# Altium integrated library NSC Power Mgt SMPS Controller.IntLib: 5 symbols
Pins are listed as number, name and electrical type; pins without a type are passive.

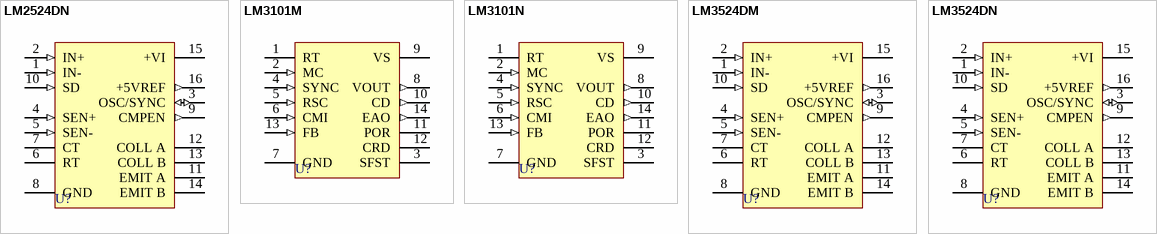
[diagram p0: symbols LM2524DN to LM3524DN]

## LM2524DN
designator U?
Regulating Pulse Width Modulator; Published: 15-Apr-2002; LatestRevisionDate: 06-Jun-2005; LatestRevisionNote: Stylized 3D Model Added.; DatasheetVersion: Jun-1999; PackageVersion: 2000; PackageReference: N16E; Publisher: Altium Limited; PackageDescription: DIP; 16 Leads; Row Spacing 7.62 mm; Pitch 2.54 mm; ComponentLink1Description: Manufacturer Link; ComponentLink1URL: http://www.national.com/; ComponentLink2Description: Datasheet; ComponentLink2URL: http://www.national.com/ds.cgi/LM/LM2524D.pdf; ComponentLink3Description: URL Link1; ComponentLink3URL: http://www.national.com/pf/LM/LM2524D.html
footprint N16E (DIP; 16 Leads; Row Spacing 7.62 mm; Pitch 2.54 mm)
3D model N16E (DIP; 16 Leads; Row Spacing 7.62 mm; Pitch 2.54 mm)
pins: 1 IN- (in), 2 IN+ (in), 3 OSC/SYNC (io), 4 SEN+ (in), 5 SEN- (in), 6 RT, 7 CT, 8 GND (power), 9 CMPEN (out), 10 SD (in), 11 EMIT A, 12 COLL A, 13 COLL B, 14 EMIT B, 15 +VI (power), 16 +5VREF (out)

## LM3101M
designator U?
Secondary-Side PWM Controller; Published: 15-Apr-2002; LatestRevisionDate: 13-Apr-2006; LatestRevisionNote: IPC-7351 Footprint Added.; DatasheetVersion: Sep-1993; PackageVersion: 2000; PackageReference: M14B; Publisher: Altium Limited; PackageDescription: 14-Pin Small Outline Integrated Circuit 1.27 mm Pitch; Code_JEDEC: MS-013-AF; Code_IPC: SOIC127P1030-14; ComponentLink1Description: Manufacturer Link; ComponentLink1URL: http://www.national.com/
footprint M14B_N (SOIC, 14-Leads, Body 9x7.5mm, Pitch 1.27mm, IPC Medium Density)
footprint M14B_L (SOIC, 14-Leads, Body 9x7.5mm, Pitch 1.27mm, IPC High Density)
footprint M14B_M (SOIC, 14-Leads, Body 9x7.5mm, Pitch 1.27mm, IPC Low Density)
3D model M14B (14-Pin Small Outline Integrated Circuit 1.27 mm Pitch)
pins: 1 RT, 2 MC (in), 3 SFST, 4 SYNC (in), 5 RSC (in), 6 CMI (in), 7 GND (power), 8 VOUT (out), 9 VS (power), 10 CD (out), 11 POR (oc), 12 CRD, 13 FB (in), 14 EAO (out)

## LM3101N
designator U?
Secondary-Side PWM Controller; Published: 15-Apr-2002; LatestRevisionDate: 06-Jun-2005; LatestRevisionNote: Stylized 3D Model Added.; DatasheetVersion: Sep-1993; PackageVersion: 2000; PackageReference: N14A; Publisher: Altium Limited; PackageDescription: DIP; 14 Leads; Row Spacing 7.62 mm; Pitch 2.54 mm; ComponentLink1Description: Manufacturer Link; ComponentLink1URL: http://www.national.com/
footprint N14A (DIP; 14 Leads; Row Spacing 7.62 mm; Pitch 2.54 mm)
3D model N14A (DIP; 14 Leads; Row Spacing 7.62 mm; Pitch 2.54 mm)
pins: 1 RT, 2 MC (in), 3 SFST, 4 SYNC (in), 5 RSC (in), 6 CMI (in), 7 GND (power), 8 VOUT (out), 9 VS (power), 10 CD (out), 11 POR (oc), 12 CRD, 13 FB (in), 14 EAO (out)

## LM3524DM
designator U?
Regulating Pulse Width Modulator; Published: 15-Apr-2002; LatestRevisionDate: 13-Apr-2006; LatestRevisionNote: IPC-7351 Footprint Added.; DatasheetVersion: Jun-1999; PackageVersion: 2000; PackageReference: M16A; Publisher: Altium Limited; PackageDescription: 16-Pin Small Outline Integrated Circuit 1.27 mm Pitch; Code_IPC: SOIC127P600-16; ComponentLink1Description: Manufacturer Link; ComponentLink1URL: http://www.national.com/; ComponentLink2Description: Datasheet; ComponentLink2URL: http://www.national.com/ds.cgi/LM/LM2524D.pdf; ComponentLink3Description: URL Link1; ComponentLink3URL: http://www.national.com/pf/LM/LM3524D.html
footprint M16A_N (SOIC, 16-Leads, Body 9.9x3.9mm, Pitch 1.27mm, IPC Medium Density)
footprint M16A_L (SOIC, 16-Leads, Body 9.9x3.9mm, Pitch 1.27mm, IPC High Density)
footprint M16A_M (SOIC, 16-Leads, Body 9.9x3.9mm, Pitch 1.27mm, IPC Low Density)
3D model M16A (16-Pin Small Outline Integrated Circuit 1.27 mm Pitch)
pins: 1 IN- (in), 2 IN+ (in), 3 OSC/SYNC (io), 4 SEN+ (in), 5 SEN- (in), 6 RT, 7 CT, 8 GND (power), 9 CMPEN (out), 10 SD (in), 11 EMIT A, 12 COLL A, 13 COLL B, 14 EMIT B, 15 +VI (power), 16 +5VREF (out)

## LM3524DN
designator U?
Regulating Pulse Width Modulator; Published: 15-Apr-2002; LatestRevisionDate: 06-Jun-2005; LatestRevisionNote: Stylized 3D Model Added.; DatasheetVersion: Jun-1999; PackageVersion: 2000; PackageReference: N16E; Publisher: Altium Limited; PackageDescription: DIP; 16 Leads; Row Spacing 7.62 mm; Pitch 2.54 mm; ComponentLink1Description: Manufacturer Link; ComponentLink1URL: http://www.national.com/; ComponentLink2Description: Datasheet; ComponentLink2URL: http://www.national.com/ds.cgi/LM/LM2524D.pdf; ComponentLink3Description: URL Link1; ComponentLink3URL: http://www.national.com/pf/LM/LM3524D.html
footprint N16E (DIP; 16 Leads; Row Spacing 7.62 mm; Pitch 2.54 mm)
3D model N16E (DIP; 16 Leads; Row Spacing 7.62 mm; Pitch 2.54 mm)
pins: 1 IN- (in), 2 IN+ (in), 3 OSC/SYNC (io), 4 SEN+ (in), 5 SEN- (in), 6 RT, 7 CT, 8 GND (power), 9 CMPEN (out), 10 SD (in), 11 EMIT A, 12 COLL A, 13 COLL B, 14 EMIT B, 15 +VI (power), 16 +5VREF (out)